# EAGLE library part AD5676RBRUZ (library nervus)
Analog Devices AD5676RBRUZ, 8-channel 16 bit DAC, 20-Pin TSSOP Source: Datasheet <https://componentsearchengine.com/Datasheets/1/AD5676RBRUZ.pdf>
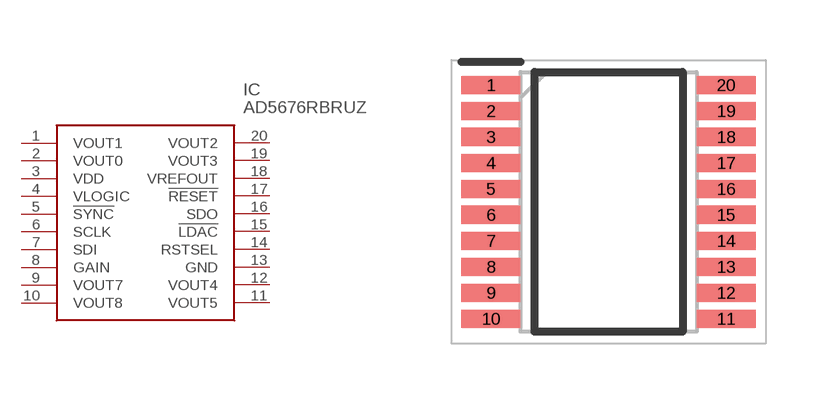
[diagram p0: symbol with the pads of SOP65P640X120-20N; footprint SOP65P640X120-20N]

Designator prefix IC

## AD5676RBRUZ (Description: Analog Devices AD5676RBRUZ, 8-channel 16 bit DAC, 20-Pin TSSOP; Height: 1.2mm; Manufacturer_Name: Analog Devices; Manufacturer_Part_Number: AD5676RBRUZ; Mouser_Part_Number: 584-AD5676RBRUZ; Mouser_Price-Stock: https://www.mouser.com/Search/Refine.aspx?Keyword=584-AD5676RBRUZ)  [SOP65P640X120-20N]
1  VOUT1  out
2  VOUT0  out
3  VDD  pwr
4  VLOGIC
5  !SYNC
6  SCLK  in
7  SDI
8  GAIN  in
9  VOUT7  out
10  VOUT8  out
11  VOUT5  out
12  VOUT4  out
13  GND  pwr
14  RSTSEL  in
15  !LDAC
16  SDO
17  !RESET
18  VREFOUT  out
19  VOUT3  out
20  VOUT2  out

## Footprint SOP65P640X120-20N (pad centres in mm)
RU-20 (TSSOP)
smd 1.475 x 0.45: 1 -2.938,2.925; 2 -2.938,2.275; 3 -2.938,1.625; 4 -2.938,0.975; 5 -2.938,0.325; 6 -2.938,-0.325; 7 -2.938,-0.975; 8 -2.938,-1.625; 9 -2.938,-2.275; 10 -2.938,-2.925; 11 2.938,-2.925; 12 2.938,-2.275; 13 2.938,-1.625; 14 2.938,-0.975; 15 2.938,-0.325; 16 2.938,0.325; 17 2.938,0.975; 18 2.938,1.625; 19 2.938,2.275; 20 2.938,2.925